# Altium footprint library CONN-SMD_PH2.0-1X2PW_2021-08-20.PcbLib: 1 footprints
Each footprint in its own frame and in the unit in brackets; x right, y up, seen from the top. Pads: shape width x height; smd on the part's side, far side on the other; paste and mask are expansions set on the pad; w line width, h text height; cw(c..) or ccw(c..) is an arc to the next point about the centre after c.
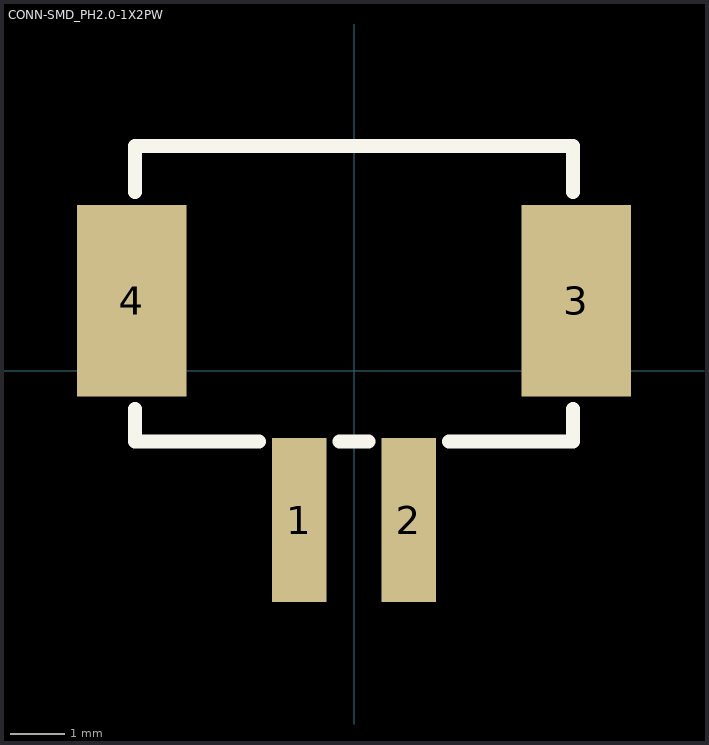
[diagram p0: the footprint, top view; thin cyan lines are the x and y axes]

## CONN-SMD_PH2.0-1X2PW [mm]
pads (4):
  rect 1x3 smd: 1(-1,-2.733) 2(1,-2.733)
  rect 2x3.5 smd: 3(4.064,1.278) 4(-4.064,1.278)
Top Overlay:
  lines w0.254: -4,-0.703 -4,-1.294 -1.731,-1.294 ; -4,3.259 -4,4.106 4,4.106 4,3.259 ; -0.269,-1.294 0.269,-1.294 ; 1.731,-1.294 4,-1.294 4,-0.703